# EAGLE library part GG_4X4_ARRAY (library GG_4x4_100drill_250pad_array)
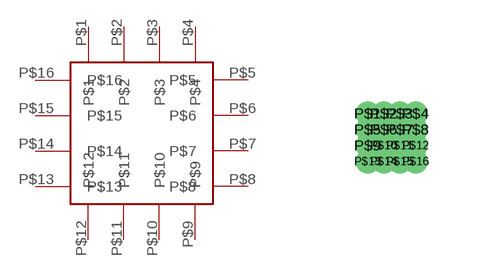
[diagram p0: symbol with the pads of GG_4X4_ARRAY; footprint GG_4X4_ARRAY]

Designator prefix -

## GG_4X4_ARRAY  [GG_4X4_ARRAY]
P$1  P$1
P$2  P$2
P$3  P$3
P$4  P$4
P$5  P$5
P$6  P$6
P$7  P$7
P$8  P$8
P$9  P$9
P$10  P$10
P$11  P$11
P$12  P$12
P$13  P$13
P$14  P$14
P$15  P$15
P$16  P$16

## Footprint GG_4X4_ARRAY (pad centres in mm)
drill 0.1 pad 0.25: P$1 0,0; P$2 0.4,0; P$3 0.8,0; P$4 1.2,0; P$5 0,-0.4; P$6 0.4,-0.4; P$7 0.8,-0.4; P$8 1.2,-0.4; P$9 0,-0.8; P$10 0.4,-0.8; P$11 0.8,-0.8; P$12 1.2,-0.8; P$13 0,-1.2; P$14 0.4,-1.2; P$15 0.8,-1.2; P$16 1.2,-1.2